# EAGLE library part ESP12E_DEVKIT (library ESP12E_DEVKIT)
ESP12E DEVKIT BOARD
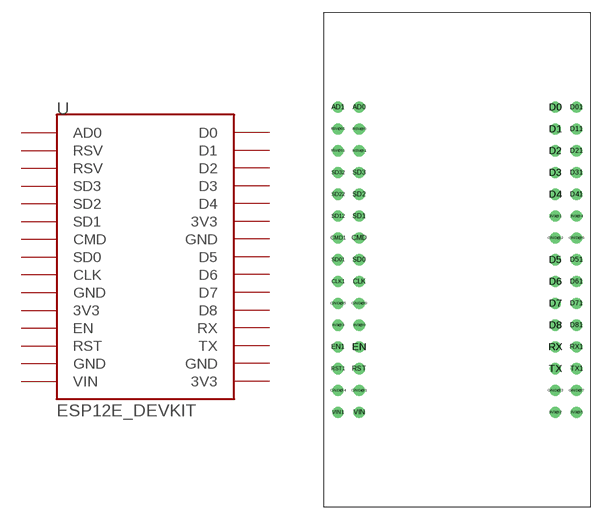
[diagram p0: symbol with the pads of ESP12E_DEVKIT; footprint ESP12E_DEVKIT]

Designator prefix -

## ESP12E_DEVKIT  [ESP12E_DEVKIT]
3V3@0  3V3
3V3@1  3V3
3V3@2  3V3
3V3@3  3V3
3V3@4  3V3
3V3@5  3V3
AD0  AD0
AD1  AD0
CLK  CLK
CLK1  CLK
CMD  CMD
CMD1  CMD
D0  D0
D01  D0
D1  D1
D2  D2
D3  D3
D4  D4
D5  D5
D6  D6
D7  D7
D8  D8
D11  D1
D21  D2
D31  D3
D41  D4
D51  D5
D61  D6
D71  D7
D81  D8
EN  EN
EN1  EN
GND@0  GND
GND@1  GND
GND@2  GND
GND@3  GND
GND@4  GND
GND@5  GND
GND@6  GND
GND@7  GND
RST  RST
RST1  RST
RSV@0  RSV
RSV@01  RSV
RSV@1  RSV
RSV@11  RSV
RX  RX
RX1  RX
SD0  SD0
SD01  SD0
SD1  SD1
SD2  SD2
SD3  SD3
SD12  SD1
SD22  SD2
SD32  SD3
TX  TX
TX1  TX
VIN  VIN
VIN1  VIN

## Footprint ESP12E_DEVKIT (pad centres in mm)
ESP12E_DEVKIT
drill 0.8: 3V3@0 -11.43,-7.62; 3V3@1 11.43,5.08; 3V3@2 11.43,-17.78; 3V3@3 -13.9,-7.62; 3V3@4 13.9,5.08; 3V3@5 13.9,-17.78; AD0 -11.43,17.78; AD1 -13.9,17.78; CLK -11.43,-2.54; CLK1 -13.9,-2.54; CMD -11.43,2.54; CMD1 -13.9,2.54; D0 11.43,17.78; D1 11.43,15.24; D01 13.9,17.78; D2 11.43,12.7; D3 11.43,10.16; D4 11.43,7.62; D5 11.43,0; D6 11.43,-2.54; D7 11.43,-5.08; D8 11.43,-7.62; D11 13.9,15.24; D21 13.9,12.7; D31 13.9,10.16; D41 13.9,7.62; D51 13.9,0; D61 13.9,-2.54; D71 13.9,-5.08; D81 13.9,-7.62; EN -11.43,-10.16; EN1 -13.9,-10.16; GND@0 -11.43,-5.08; GND@1 -11.43,-15.24; GND@2 11.43,2.54; GND@3 11.43,-15.24; GND@4 -13.9,-15.24; GND@5 -13.9,-5.08; GND@6 13.9,2.54; GND@7 13.9,-15.24; RST -11.43,-12.7; RST1 -13.9,-12.7; RSV@0 -11.43,15.24; RSV@1 -11.43,12.7; RSV@01 -13.9,15.24; RSV@11 -13.9,12.7; RX 11.43,-10.16; RX1 13.9,-10.16; SD0 -11.43,0; SD1 -11.43,5.08; SD01 -13.9,0; SD2 -11.43,7.62; SD3 -11.43,10.16; SD12 -13.9,5.08; SD22 -13.9,7.62; SD32 -13.9,10.16; TX 11.43,-12.7; TX1 13.9,-12.7; VIN -11.43,-17.78; VIN1 -13.9,-17.78